# Altium footprint library Connectors.PcbLib: 19 footprints (part 2 of 2)
Each footprint in its own frame and in the unit in brackets; x right, y up, seen from the top. Pads: shape width x height; smd on the part's side, far side on the other; paste and mask are expansions set on the pad; w line width, h text height; cw(c..) or ccw(c..) is an arc to the next point about the centre after c.
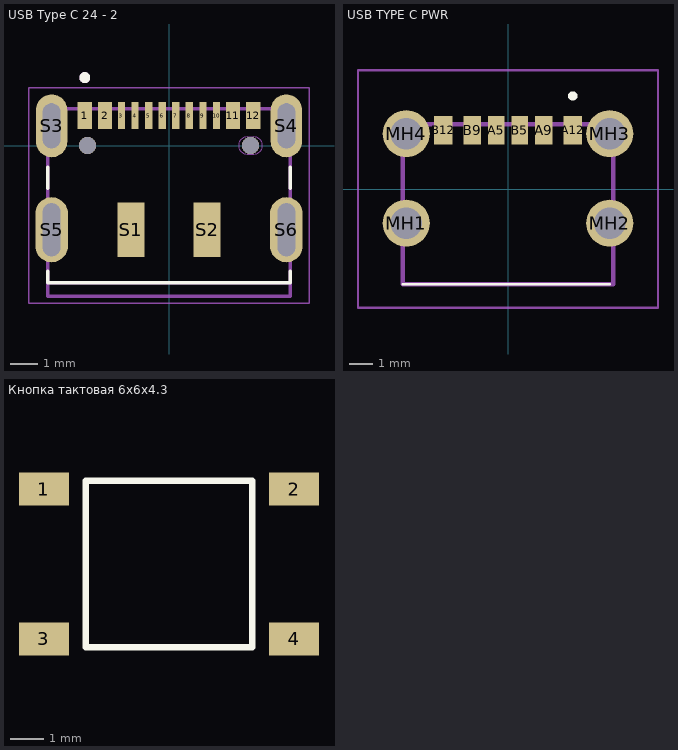
[diagram p1: the footprints below, top view; thin cyan lines are the x and y axes]

## USB Type C 24 - 2 [mm]
pads (21):
  rect 0.52x1 smd: 1(-3.1,1.1) 2(-2.35,1.1) 11(2.35,1.1) 12(3.1,1.1)
  rect 0.27x1 smd: 3(-1.75,1.1) 4(-1.25,1.1) 5(-0.75,1.1) 6(-0.25,1.1) 7(0.25,1.1) 8(0.75,1.1) 9(1.25,1.1) 10(1.75,1.1)
  rect 1x2 smd: S1(-1.4,-3.1) S2(1.4,-3.1)
  oval 1.158x2.316 hole 0.65 slot 1.65 at 90 deg: S3(-4.32,0.725) S4(4.32,0.725)
  oval 1.2x2.4 hole 0.65 slot 1.95 at 90 deg: S5(-4.32,-3.1) S6(4.32,-3.1)
  round 0.63 hole 0.63 unplated: ""(-3,0) ""(3,0)
  round 0.6 hole 0.6 unplated: ""(3,0)
Top Overlay:
  circle w0.2: c-3.1,2.5 r0.1
  lines w0.127: -4.47,-4.63 -4.47,-5.05 4.47,-5.05 4.47,-4.63 ; -4.47,-1.57 -4.47,-0.805 ; 4.47,-1.57 4.47,-0.805
Mechanical 1:
  lines w0: 2.56,0 ccw(c2.875,0) 2.875,-0.315 3.125,-0.315 ccw(c3.125,0) 3.44,0 ccw(c3.125,0) 3.125,0.315 2.875,0.315 ccw(c2.875,0) 2.56,0
Mechanical 13:
  circle w0.2: c-3.1,2.5 r0.1
  lines w0.127: -4.47,-5.05 -4.47,-5.55 4.47,-5.55 4.47,-5.05 ; -4.47,-5.05 -4.47,1.35 4.47,1.35 4.47,-5.05 ; -4.47,-5.05 4.47,-5.05
Mechanical 15:
  lines w0.05: -5.17,-5.8 -5.17,2.135 5.17,2.135 5.17,-5.8 -5.17,-5.8

## USB TYPE C PWR [mm]
pads (10):
  rect 0.7x1.2 smd: A5(-0.5,2.5) B5(0.5,2.5)
  rect 0.76x1.2 smd: A9(1.52,2.5) B9(-1.52,2.5)
  rect 0.8x1.2 smd: A12(2.75,2.5) B12(-2.75,2.5)
  round 2 hole 1.346: MH1(-4.32,-1.45) MH2(4.32,-1.45) MH3(4.32,2.35) MH4(-4.32,2.35)
Top Overlay:
  lines w0.1: -4.47,-4.05 4.32,-4.05
  lines w0.2: 2.75,3.85 cw(c2.75,3.95) 2.75,4.05 cw(c2.75,3.95) 2.75,3.85
Mechanical 13:
  lines w0.2: -4.47,-4.05 -4.47,2.75 4.47,2.75 4.47,-4.05 -4.47,-4.05
Mechanical 15:
  lines w0.1: -6.37,-5.05 -6.37,5.05 6.37,5.05 6.37,-5.05 -6.37,-5.05
3D body "TYPE-C-31-M-17.stp": height 3.26, standoff -0.94, extent -4.47,-4.31 4.48,3.09

## Кнопка тактовая 6х6х4.3 [mm]
pads (4):
  rect 1.5x1 smd: 1(-12.25,9.25) 2(-4.75,9.25) 3(-12.25,4.75) 4(-4.75,4.75)
Top Overlay:
  lines w0.2: -11,4.5 -6,4.5 -6,5.5 -6,8.5 -6,9.5 -11,9.5 -11,4.5
3D body "TS-1102S-B-B-B--3DModel-STEP-56544.STEP": height 4.5, standoff 0, extent -12.8,4 -4.2,10